# EAGLE library part S-1011AA0 (library PowerManagement)
https://www.digikey.ca/product-detail/en/ablic-u-s-a-inc/S-1011AA0-M6T1U4/1662-2884-1-ND/8022016 https://www.ablic.com/en/doc/datasheet/voltage_detector/S1011_E.pdf
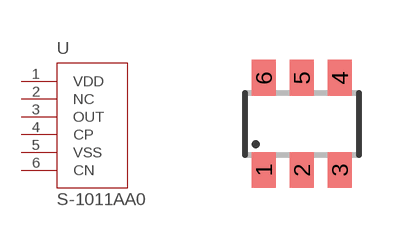
[diagram p4: symbol with the pads of SOT23-6; footprint SOT23-6]

Designator prefix -

## S-1011AA0SOT  [SOT23-6]
1  VDD  pas
2  NC  pas
3  OUT  pas
4  CP  pas
5  VSS  pas
6  CN  pas

## Footprint SOT23-6 (pad centres in mm)
Small Outline Transistor 6 lead
smd 0.6 x 0.9: 1 -0.95,-1.15; 2 0,-1.15; 3 0.95,-1.15; 4 0.95,1.15; 5 0,1.15; 6 -0.95,1.15